# Altium schematic symbol library LED_single.SchLib: 1 symbol
Pins are listed as number, name and electrical type; pins without a type are passive.

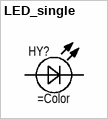
[diagram p0: symbol LED_single]

## LED_single
designator HY?
Parameter 1: =Color
pins: 1 A, 2 C